# Altium schematic symbol library MainBLib.SchLib: 49 symbols (part 2 of 2)
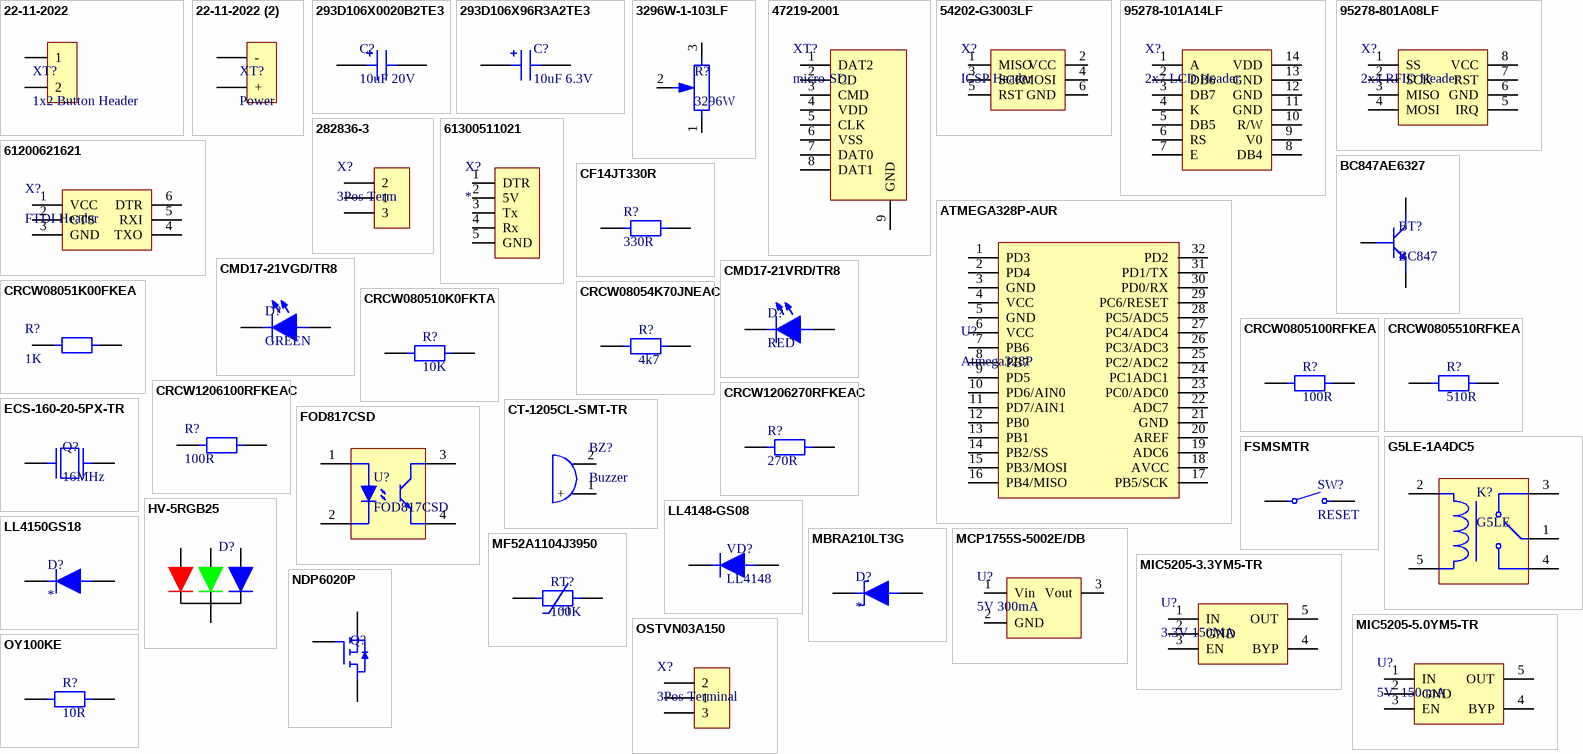
[diagram p2: symbols 22-11-2022 to OY100KE]

## ECS-160-20-5PX-TR
designator Q?, comment 16MHz
CRYSTAL 16.0000MHZ 20PF SMD; Manufacturer: ECS International; Manufacturer Part Number: ECS-160-20-5PX-TR; Frequency Tolerance: 30ppm; ESR (Equivalent Series Resistance): 40R; Frequency Stability: 50ppm; Supplier 1: Digi-Key; Supplier Part Number 1: XC1282CT-ND; Stock 1: 5912; Pricing 1: 1=0.3, 10=0.25, 50=0.2248, 100=0.1997, 500=0.1898 (USD); Mount: Surface Mount; Number of Pins: 2; Min Operating Temperature: -10°C; Max Operating Temperature: 70°C; Package Quantity: 1000; Frequency: 16MHz; Load Capacitance: 20pF; Packaging: Tape and Reel; Tolerance: 30ppm; Termination: SMD/SMT; Length: 0.449inch; Height: 0.169inch; Width: 0.189inch; Lead Free: Lead Free; ComponentLink1URL: http://www.ecsxtal.com/store/pdf/partnumber4.pdf?src-supplier=Digi-Key; ComponentLink1Description: http://www.ecsxtal.com/store/pdf/partnumber4.pdf?src-supplier=Digi-Key; ComponentLink2URL: http://www.ecsxtal.com/store/pdf/csm-7x.pdf?src-supplier=Digi-Key; ComponentLink2Description: http://www.ecsxtal.com/store/pdf/csm-7x.pdf?src-supplier=Digi-Key; Category: Crystals; Case/Package: HC-49/US
footprint Crystal
pins: 1, 2

## FOD817CSD
designator U?
OPTOISOLATOR 5KV TRANSISTOR 4SMD; Manufacturer: ON Semiconductor / Fairchild; Reverse Breakdown Voltage: 6V; Forward Voltage: 1.4V; Forward Current: 50mA; Rise Time: 18000ns; Number of Channels: 1; Collector Emitter Voltage (VCEO): 200mV; Max Power Dissipation: 200mW; Max Output Voltage: 70V; Current Transfer Ratio: 400%; Supplier 1: Digi-Key; Supplier Part Number 1: FOD817CSDCT-ND; Manufacturer Part Number: FOD817CSD; Stock 1: 3730; Pricing 1: 1=0.53, 10=0.385, 100=0.2513, 500=0.1806 (USD); Mount: Surface Mount; Case/Package: SMD/SMT; Number of Pins: 4; Weight: 0g; Min Operating Temperature: -55°C; Max Operating Temperature: 110°C; Packaging: Tape and Reel; Package Quantity: 1; Output Current per Channel: 50mA; Collector Emitter Saturation Voltage: 200mV; Max Collector Current: 50mA; Number of Elements: 1; Power Dissipation: 200mW; Fall Time: 18000ns; Max Input Current: 50mA; Isolation Voltage: 5kV; Number of Circuits: 1; Input Current: 50mA; Output Voltage: 70V; Length: 5.1mm; Height: 4mm; Width: 7mm; Radiation Hardening: No; REACH SVHC: No SVHC; Lead Free: Lead Free; ComponentLink1URL: http://www.fairchildsemi.com/datasheets/FO/FOD814A.pdf?src-supplier=Digi-Key; ComponentLink1Description: http://www.fairchildsemi.com/datasheets/FO/FOD814A.pdf?src-supplier=Digi-Key; ComponentLink2URL: http://www.onsemi.com/pub/Collateral/FOD814-D.PDF?src-supplier=Digi-Key; ComponentLink2Description: http://www.onsemi.com/pub/Collateral/FOD814-D.PDF?src-supplier=Digi-Key; ComponentLink3URL: http://www.jameco.com/Jameco/Products/ProdDS/915542.pdf?src-supplier=Jameco; ComponentLink3Description: http://www.jameco.com/Jameco/Products/ProdDS/915542.pdf?src-supplier=Jameco; ComponentLink4URL: http://www.mouser.com/ds/2/149/FOD817C-1008818.pdf?src-supplier=Mouser; ComponentLink4Description: http://www.mouser.com/ds/2/149/FOD817C-1008818.pdf?src-supplier=Mouser; ComponentLink5URL: http://www.farnell.com/datasheets/2041422.pdf?src-supplier=Element14; ComponentLink5Description: http://www.farnell.com/datasheets/2041422.pdf?src-supplier=Element14; ComponentLink6URL: https://www.fairchildsemi.com/datasheets/FO/FOD817D.pdf?src-supplier=Avnet; ComponentLink6Description: https://www.fairchildsemi.com/datasheets/FO/FOD817D.pdf?src-supplier=Avnet; ComponentLink7URL: http://www.fairchildsemi.com/ds/FO/FOD814A.pdf?src-supplier=Future+Electronics; ComponentLink7Description: http://www.fairchildsemi.com/ds/FO/FOD814A.pdf?src-supplier=Future+Electronics; ComponentLink8URL: https://www.verical.com/server-webapp/html/getDatasheet?partID=60121&src-supplier=Verical; ComponentLink8Description: https://www.verical.com/server-webapp/html/getDatasheet?partID=60121&src-supplier=Verical; ComponentLink9URL: https://www.fairchildsemi.com/datasheets/FO/FOD817D.pdf?src-supplier=Avnet+Europe; ComponentLink9Description: https://www.fairchildsemi.com/datasheets/FO/FOD817D.pdf?src-supplier=Avnet+Europe; Category: Optoisolators
footprint Isolator
pins: 1, 2, 3, 4

## FSMSMTR
designator SW?, comment RESET
SWITCH TACTILE SPST-NO 0.05A 24V; Manufacturer: TE Connectivity; Manufacturer Part Number: FSMSMTR; Mechanical Life: 20000Cycles; Actuator Material: Polyamide; Current Rating: 50mA; Throw Configuration: SPST; Contact Resistance: 100mR; Operating Force: 180gf; Max Voltage Rating (DC): 12V; Illumination Type: Non-Illuminated,Illuminated; Switch Travel: 0.25mm; Switch Function: Off-Mom; Actuator Type: Standard; Actuator Length: 1.07mm; Supplier 1: Digi-Key; Supplier Part Number 1: 450-1758-6-ND; Stock 1: 20359; Pricing 1: 1=0.47, 10=0.45, 25=0.442, 50=0.4254, 100=0.367, 250=0.3336, 500=0.317 (USD); Mount: Surface Mount; Case/Package: SMD/SMT; Contact Material: Brass; Contact Plating: Silver; Min Operating Temperature: -35°C; Max Operating Temperature: 85°C; Packaging: Tape and Reel; Package Quantity: 1800; Termination: Gull Wing; Voltage Rating (DC): 24V; Contact Current Rating: 50mA; Electrical Life: 20000Cycles; Orientation: Straight; Type: Switch; Max Current Rating: 50mA; Radiation Hardening: No; REACH SVHC: Unknown; Lead Free: Lead Free; ELV: Compliant; ComponentLink1URL: http://www.onlinecomponents.com/productFiles/mf-AO/eng_cat_1308390_0904_e3_e10_.pdf?src-supplier=Onlinecomponents.com; ComponentLink1Description: http://www.onlinecomponents.com/productFiles/mf-AO/eng_cat_1308390_0904_e3_e10_.pdf?src-supplier=Onlinecomponents.com; ComponentLink2URL: https://www.te.com/commerce/DocumentDelivery/DDEController?Action=srchrtrv&DocNm=1437566-3&DocType=Customer+Drawing&DocLang=English&src-supplier=Digi-Key; ComponentLink2Description: https://www.te.com/commerce/DocumentDelivery/DDEController?Action=srchrtrv&DocNm=1437566-3&DocType=Customer+Drawing&DocLang=English&src-supplier=Digi-Key; Category: Switches
footprint SWITCH
pins: 1, 2

## G5LE-1A4DC5
designator K?, comment G5LE
Relays Power PCB Relay SPST-NO Sealed 5VDC General Purpose; Manufacturer: Omron; Manufacturer Part Number: G5LE-1A4DC5; Power Rating: 400mW; Voltage Rating (AC): 250V; Max Voltage Rating (DC): 125V; Max Current Rating: 10A; Throw Configuration: SPST; Coil Resistance: 63R; Coil Current: 79.4mA; Operate Time: 10ms; Coil Type: Non-Latching; Coil Voltage (DC): 5V; Release Time: 5ms; Approvals: UL,CSA; Supplier 1: Digi-Key; Supplier Part Number 1: Z3116-ND; Stock 1: 21009; Pricing 1: 1=1.41, 10=1.321, 25=1.1748, 50=1.1158, 100=1.0571, 250=0.9397, 500=0.881 (USD); Mount: Through Hole,PCB; Number of Pins: 4; Weight: 12g; Contact Material: Tin,Silver; Min Operating Temperature: -40°C; Max Operating Temperature: 85°C; Power Consumption: 400mW; Package Quantity: 500; Max Voltage Rating (AC): 250V; Packaging: Tray; Termination: Solder; Contact Current Rating: 10A; Relay Type: General Purpose; Coil Power: 400mW; Current Rating: 10A; Length: 22.5mm; Height: 19mm; Width: 16.5mm; Depth: 16.5mm; REACH SVHC: Unknown; Lead Free: Lead Free; ComponentLink1URL: http://www.mouser.com/ds/2/307/G5LE_0813-267607.pdf?src-supplier=Mouser; ComponentLink1Description: http://www.mouser.com/ds/2/307/G5LE_0813-267607.pdf?src-supplier=Mouser; ComponentLink2URL: http://www.farnell.com/datasheets/1514128.pdf?src-supplier=Element14; ComponentLink2Description: http://www.farnell.com/datasheets/1514128.pdf?src-supplier=Element14; Category: Relays
footprint Relay
pins: 1, 2, 3, 4, 5

## HV-5RGB25
designator D?, comment LED RGB  (value not drawn)
LED RGB DIFFUSED 5MM T/H; Manufacturer: Inolux; Manufacturer Part Number: HV-5RGB25; Color: Blue,Green,Red; Lens Color: Colorless; Lens Style: Round,Domed; Element Configuration: Common Cathode; Lens Transparency: Clear; Luminous Intensity: 2000mcd; Forward Voltage: 3.4V; Test Current: 20mA; Viewing Angle: 25°; Dominant Wavelength: 470nm; Supplier 1: Digi-Key; Supplier Part Number 1: 1830-1015-ND; Stock 1: 3004; Pricing 1: 1=1.02, 10=0.829, 100=0.51, 500=0.4335, 1000=0.357, 2500=0.3392, 5000=0.3315, 10000=0.3239, 25000=0.3188 (USD); Mount: Through Hole; Case/Package: Radial; Packaging: Bulk; Height: 8.9mm; Lens Size: 5mm; ComponentLink1URL: http://www.inolux-corp.com/datasheet/Inolux%20Lamp/TH%20Lamp/HV-5RGBXX%205mm%20Full-Color%20Series.pdf?src-supplier=Digi-Key; ComponentLink1Description: http://www.inolux-corp.com/datasheet/Inolux%20Lamp/TH%20Lamp/HV-5RGBXX%205mm%20Full-Color%20Series.pdf?src-supplier=Digi-Key; Category: Optoelectronics
footprint LED RGB
pins: 1 B, 2 R, 3, 4 G

## LL4148-GS08
designator VD?, comment LL4148
DIODE, 100V 150mA, SWITCHING VISHAY - LL4148-GS08  SOD-80; Max Surge Current: 2A; Forward Voltage: 1V; Max Power Dissipation: 500mW; Recovery Time: 8ns; Max Reverse Leakage Current: 5uA; Average Rectified Current: 300mA; Element Configuration: Single; Max Reverse Voltage (DC): 75V; Outside Diameter: 1.5mm; Supplier 1: Digi-Key; Supplier Part Number 1: LL4148-GS08CT-ND; Manufacturer: Vishay; Manufacturer Part Number: LL4148-GS08; Stock 1: 114749; Pricing 1: 1=0.14, 10=0.129, 100=0.07, 500=0.0431, 1000=0.0294 (USD); Mount: Surface Mount; Number of Pins: 2; Contact Plating: Tin,Silver; Min Operating Temperature: -65°C; Max Operating Temperature: 175°C; Packaging: Tape and Reel; Forward Current: 150mA; Package Quantity: 1; Reverse Recovery Time: 8ns; Power Dissipation: 500mW; Peak Non-Repetitive Surge Current: 2A; Max Repetitive Reverse Voltage (Vrrm): 100V; Max Forward Surge Current (Ifsm): 2A; Termination: SMD/SMT; Current Rating: 150mA; Voltage: 100V; Diameter: 1.6mm; Length: 0.145inch; Radiation Hardening: No; REACH SVHC: Unknown; Lead Free: Lead Free; ComponentLink1URL: http://www.farnell.com/datasheets/2046016.pdf?src-supplier=Newark; ComponentLink1Description: http://www.farnell.com/datasheets/2046016.pdf?src-supplier=Newark; ComponentLink2URL: http://www.vishay.com/docs/85557/ll4148.pdf?src-supplier=Future+Electronics; ComponentLink2Description: http://www.vishay.com/docs/85557/ll4148.pdf?src-supplier=Future+Electronics; ComponentLink3URL: http://www.vishay.com/docs/85557/ll4148.pdf?src-supplier=Digi-Key; ComponentLink3Description: http://www.vishay.com/docs/85557/ll4148.pdf?src-supplier=Digi-Key; ComponentLink4URL: http://www.vishay.com/docs/85557/ll4148.pdf?src-supplier=Avnet; ComponentLink4Description: http://www.vishay.com/docs/85557/ll4148.pdf?src-supplier=Avnet; ComponentLink5URL: http://www.farnell.com/datasheets/1513919.pdf?src-supplier=Farnell; ComponentLink5Description: http://www.farnell.com/datasheets/1513919.pdf?src-supplier=Farnell; ComponentLink6URL: http://www.vishay.com/docs/85557/ll4148.pdf?src-supplier=Avnet+Asia; ComponentLink6Description: http://www.vishay.com/docs/85557/ll4148.pdf?src-supplier=Avnet+Asia; ComponentLink7URL: http://www.mouser.com/ds/2/427/ll4148-105055.pdf?src-supplier=Mouser; ComponentLink7Description: http://www.mouser.com/ds/2/427/ll4148-105055.pdf?src-supplier=Mouser; ComponentLink8URL: http://www.farnell.com/datasheets/2046016.pdf?src-supplier=Element14; ComponentLink8Description: http://www.farnell.com/datasheets/2046016.pdf?src-supplier=Element14; ComponentLink9URL: http://www.farnell.com/datasheets/1513919.pdf?src-supplier=Element14; ComponentLink9Description: http://www.farnell.com/datasheets/1513919.pdf?src-supplier=Element14; ComponentLink10URL: http://components.arrow.com/part/dataview/32126948S9716658N5680?src-supplier=Arrow; ComponentLink10Description: http://components.arrow.com/part/dataview/32126948S9716658N5680?src-supplier=Arrow; ComponentLink11URL: http://www.jameco.com/Jameco/Products/ProdDS/891018.pdf?src-supplier=Jameco; ComponentLink11Description: http://www.jameco.com/Jameco/Products/ProdDS/891018.pdf?src-supplier=Jameco; ComponentLink12URL: http://www.vishay.com/docs/85557/ll4148.pdf?src-supplier=Avnet+Europe; ComponentLink12Description: http://www.vishay.com/docs/85557/ll4148.pdf?src-supplier=Avnet+Europe; Category: Diodes; Case/Package: SOD-80
footprint Diode
pins: 1, 2

## LL4150GS18
designator D?
DIODE, 60V 600mA, General Purpose, Power, Switching; Manufacturer: Vishay; Manufacturer Part Number: LL4150GS18; Recovery Time: 4ns; Max Power Dissipation: 500mW; Peak Reverse Current: 100nA; Max Surge Current: 4A; Forward Voltage: 1V; Max Reverse Leakage Current: 100uA; Max Repetitive Reverse Voltage (Vrrm): 50V; Element Configuration: Single; Supplier 1: Digi-Key; Supplier Part Number 1: LL4150GS18GICT-ND; Stock 1: 10151; Pricing 1: 1=0.16, 10=0.149, 100=0.081, 500=0.0499, 1000=0.034, 2500=0.0289, 5000=0.0261 (USD); Mount: Surface Mount; Number of Pins: 2; Min Operating Temperature: -65°C; Max Operating Temperature: 175°C; Packaging: Tape and Reel; Package Quantity: 10000; Forward Current: 600mA; Average Rectified Current: 600mA; Reverse Recovery Time: 4ns; Peak Non-Repetitive Surge Current: 4A; Voltage: 50V; Max Reverse Voltage (DC): 50V; Length: 3.7mm; Height: 1.6mm; Width: 1.6mm; Radiation Hardening: No; ComponentLink1URL: http://www.mouser.com/ds/2/427/ll4150-240292.pdf?src-supplier=Mouser; ComponentLink1Description: http://www.mouser.com/ds/2/427/ll4150-240292.pdf?src-supplier=Mouser; ComponentLink2URL: http://www.vishay.com/docs/85558/ll4150.pdf?src-supplier=Avnet; ComponentLink2Description: http://www.vishay.com/docs/85558/ll4150.pdf?src-supplier=Avnet; ComponentLink3URL: http://www.vishay.com/docs/85558/ll4150.pdf?src-supplier=Avnet+Europe; ComponentLink3Description: http://www.vishay.com/docs/85558/ll4150.pdf?src-supplier=Avnet+Europe; Category: Diodes; Case/Package: SOD-80
footprint Diode
pins: 1, 2

## MBRA210LT3G
designator D?
DIODE SCHOTTKY 10V 2A SMA; Manufacturer: ON Semiconductor; Manufacturer Part Number: MBRA210LT3G; Max Surge Current: 160A; Forward Voltage: 350mV; Peak Reverse Current: 700uA; Element Configuration: Single; Polarity: Standard; Supplier 1: Digi-Key; Supplier Part Number 1: MBRA210LT3GOSCT-ND; Stock 1: 23902; Pricing 1: 1=0.48, 10=0.411, 100=0.3072, 500=0.2413, 1000=0.1865 (USD); Case/Package: CASE 403D SMA; Number of Pins: 2; Contact Plating: Tin,Matte; Min Operating Temperature: -55°C; Max Operating Temperature: 125°C; Package Quantity: 1; Forward Current: 2A; Packaging: Tape and Reel; Average Rectified Current: 2A; Max Reverse Leakage Current: 700uA; Max Repetitive Reverse Voltage (Vrrm): 10V; Max Forward Surge Current (Ifsm): 160A; Peak Non-Repetitive Surge Current: 160A; Voltage Rating (DC): 10V; Current Rating: 2A; Output Current: 2A; Max Reverse Voltage (DC): 10V; Length: 4.57mm; Height: 2.05mm; Width: 2.92mm; Radiation Hardening: No; REACH SVHC: No SVHC; Lead Free: Lead Free; Halogen Free: Halogen Free; ComponentLink1URL: http://www.onsemi.com/pub/Collateral/MBRA210LT3-D.PDF?src-supplier=Digi-Key; ComponentLink1Description: http://www.onsemi.com/pub/Collateral/MBRA210LT3-D.PDF?src-supplier=Digi-Key; ComponentLink2URL: http://www.mouser.com/ds/2/308/MBRA210LT3-D-76406.pdf?src-supplier=Mouser; ComponentLink2Description: http://www.mouser.com/ds/2/308/MBRA210LT3-D-76406.pdf?src-supplier=Mouser; ComponentLink3URL: http://www.farnell.com/datasheets/1796182.pdf?src-supplier=Element14; ComponentLink3Description: http://www.farnell.com/datasheets/1796182.pdf?src-supplier=Element14; ComponentLink4URL: http://www.onsemi.com/pub/Collateral/MBRA210LT3-D.PDF?src-supplier=Avnet; ComponentLink4Description: http://www.onsemi.com/pub/Collateral/MBRA210LT3-D.PDF?src-supplier=Avnet; ComponentLink5URL: http://www.onsemi.com/pub/Collateral/MBRA210LT3-D.PDF?src-supplier=Future+Electronics; ComponentLink5Description: http://www.onsemi.com/pub/Collateral/MBRA210LT3-D.PDF?src-supplier=Future+Electronics; Category: Diodes
footprint DIOM4326X22M (Molded Diode, 2-Leads, Body 4.31x2.60mm, IPC Low Density)
pins: 1, 2

## MCP1755S-5002E/DB
designator U?, comment 5V 300mA
Voltage Regulator, 5Vout, 300mAout, 3.6Vin to 16Vin, 300mV Fixed LDO Dropout, 5Vout, 300mAout, SOT-223-3; Manufacturer: Microchip; Manufacturer Part Number: MCP1755S-5002E/DB; Max Input Voltage: 16V; Number of Outputs: 1; Min Input Voltage: 3.6V; Polarity: Positive; Quiescent Current: 100uA; Accuracy: 2%; Power Supply Rejection Ratio (PSRR): 70dB; Nominal Supply Current: 68uA; Supplier 1: Digi-Key; Supplier Part Number 1: MCP1755S-5002E/DB-ND; Stock 1: 1923; Pricing 1: 1=0.68, 25=0.5768, 100=0.5665 (USD); Mount: Surface Mount; Case/Package: SOT-223-3; Number of Pins: 3; Weight: 0.008826oz; Min Operating Temperature: -40°C; Max Operating Temperature: 125°C; Nominal Output Voltage: 5V; Output Current: 300mA; Dropout Voltage: 300mV; Output Voltage: 5V; Packaging: Bulk; Package Quantity: 78; Max Output Current: 300mA; Output Type: Fixed; Length: 6.7mm; Height: 1.7mm; Width: 3.7mm; REACH SVHC: No SVHC; Lead Free: Lead Free; ComponentLink1URL: http://www.farnell.com/datasheets/1697992.pdf?src-supplier=Element14; ComponentLink1Description: http://www.farnell.com/datasheets/1697992.pdf?src-supplier=Element14; ComponentLink2URL: https://www.distrelec.biz/Web/Downloads/_t/ds/MCP1755_eng_tds.pdf?mime=application%2Fpdf&src-supplier=Distrelec; ComponentLink2Description: https://www.distrelec.biz/Web/Downloads/_t/ds/MCP1755_eng_tds.pdf?mime=application%2Fpdf&src-supplier=Distrelec; Category: Voltage Regulators
footprint SOT230P700X180-4M (SOT223, 4-Leads, Body 6.40x7.00mm (avg), Pitch 2.30mm, IPC Low Density)
pins: 1 Vin, 2 GND, 3 Vout

## MF52A1104J3950
designator RT?, comment 100K
THERMISTOR 100K OHM 5% BEAD; Manufacturer: Canadian Thermostats; Manufacturer Part Number: MF52A1104J3950; Max Power Dissipation: 50mW; Supplier 1: Digi-Key; Supplier Part Number 1: 317-1264-ND; Stock 1: 3676; Pricing 1: 1=0.45, 5=0.43, 10=0.383, 25=0.3528, 50=0.282, 100=0.2418, 500=0.2116, 1000=0.1814, 5000=0.1612 (USD); Mount: Through Hole; Min Operating Temperature: -55°C; Max Operating Temperature: 125°C; Package Quantity: 3000; Tolerance: 5%; Packaging: Bulk; ComponentLink1URL: http://www.cantherm.com/wp-content/uploads/2017/05/cantherm_mf52_1.pdf?src-supplier=Digi-Key; ComponentLink1Description: http://www.cantherm.com/wp-content/uploads/2017/05/cantherm_mf52_1.pdf?src-supplier=Digi-Key; Category: NTC Thermistors
footprint THERMISTOR
pins: 1, 2
text: +t

## MIC5205-3.3YM5-TR
designator U?, comment 3.3V 150MA
Voltage Regulator 3.3V 150MA SOT23-5; Manufacturer: Microchip; Manufacturer Part Number: MIC5205-3.3YM5-TR; Dropout Voltage: 165mV; Number of Regulators: 1; Min Input Voltage: 2.5V; Max Input Voltage: 16V; Output Type: Fixed; Supplier 1: Digi-Key; Supplier Part Number 1: 576-1259-1-ND; Stock 1: 9912; Pricing 1: 1=0.41, 25=0.34, 100=0.309 (USD); Mount: Surface Mount; Case/Package: SOT-23-5; Number of Pins: 5; Min Operating Temperature: -40°C; Max Operating Temperature: 125°C; Packaging: Cut Tape; Output Voltage: 3.3V; Output Current: 150mA; Nominal Output Voltage: 3.3V; Number of Outputs: 1; REACH SVHC: No SVHC; Lead Free: Lead Free; Category: Voltage Regulators
footprint SOT95P280X130-5M (SOT23, 5-Leads, Body 2.90x2.80mm, Pitch 0.95mm, IPC Low Density)
pins: 1 IN, 2 GND, 3 EN, 4 BYP, 5 OUT

## MIC5205-5.0YM5-TR
designator U?, comment 5V  150 mA
Voltage Regulator 5V 150 mA Output SMT Low-Noise LDO Regulator - SOT-23-5; Manufacturer: Microchip Micrel; Manufacturer Part Number: MIC5205-5.0YM5-TR; Dropout Voltage: 350mV; Max Output Current: 150mA; Number of Outputs: 1; Min Input Voltage: 2.5V; Max Input Voltage: 16V; Polarity: Positive; Accuracy: 1%; Power Supply Rejection Ratio (PSRR): 75dB; Output Type: Fixed; Supplier 1: Digi-Key; Supplier Part Number 1: 576-1261-1-ND; Stock 1: 23908; Pricing 1: 1=0.41, 25=0.34, 100=0.309 (USD); Mount: Surface Mount; Case/Package: SOT-23; Number of Pins: 5; Min Operating Temperature: -40°C; Max Operating Temperature: 125°C; Package Quantity: 1; Packaging: Tape and Reel; Output Voltage: 5V; Output Current: 150mA; Max Supply Voltage: 16V; Min Supply Voltage: 2.5V; Nominal Output Voltage: 5V; Number of Regulators: 1; Min Output Voltage: 5V; Max Output Voltage: 5V; Termination: SMD/SMT; Output Voltage Accuracy: 1%; Current Rating: 150mA; Length: 2.9mm; Height: 1.1mm; Width: 1.6mm; Radiation Hardening: No; REACH SVHC: No SVHC; Lead Free: Lead Free; ComponentLink1URL: http://www.mouser.com/ds/2/495/mic5205-271941.pdf?src-supplier=Mouser; ComponentLink1Description: http://www.mouser.com/ds/2/495/mic5205-271941.pdf?src-supplier=Mouser; ComponentLink2URL: http://www.micrel.com/_PDF/mic5205.pdf?src-supplier=Future+Electronics; ComponentLink2Description: http://www.micrel.com/_PDF/mic5205.pdf?src-supplier=Future+Electronics; Category: Voltage Regulators
pins: 1 IN, 2 GND, 3 EN, 4 BYP, 5 OUT

## NDP6020P
designator Q?, comment MOSFET P-Ch  (value not drawn)
MOSFET P-Ch LL FET Enhancement Mode; Manufacturer: ON Semiconductor / Fairchild; Manufacturer Part Number: NDP6020P; Max Power Dissipation: 60W; Rise Time: 27ns; Rds On Max: 50mR; Input Capacitance: 1.59nF; Drain to Source Voltage (Vdss): 20V; Continuous Drain Current (ID): 24A; Fall Time: 70ns; Drain to Source Resistance: 5mR; Turn-Off Delay Time: 120ns; Number of Elements: 1; Turn-On Delay Time: 15ns; Threshold Voltage: -700mV; Element Configuration: Single; Drain to Source Breakdown Voltage: -20V; Gate to Source Voltage (Vgs): 8V; Current Rating: -24A; Supplier 1: Digi-Key; Supplier Part Number 1: NDP6020P-ND; Stock 1: 4487; Pricing 1: 1=1.73, 10=1.552, 100=1.2475, 500=1.025, 1000=0.8493 (USD); Mount: Through Hole; Case/Package: TO-220AB; Number of Pins: 3; Weight: 1.8g; Min Operating Temperature: -55°C; Max Operating Temperature: 175°C; Packaging: Rail/Tube; Package Quantity: 50; Power Dissipation: 60W; Voltage Rating (DC): -20V; On-State Resistance: 50mR; Length: 10.67mm; Height: 16.3mm; Width: 4.7mm; Radiation Hardening: No; REACH SVHC: No SVHC; Lead Free: Lead Free; ComponentLink1URL: https://www.verical.com/server-webapp/html/getDatasheet?partID=59735&src-supplier=Verical; ComponentLink1Description: https://www.verical.com/server-webapp/html/getDatasheet?partID=59735&src-supplier=Verical; ComponentLink2URL: https://www.fairchildsemi.com/datasheets/ND/NDB6020P.pdf?src-supplier=Avnet; ComponentLink2Description: https://www.fairchildsemi.com/datasheets/ND/NDB6020P.pdf?src-supplier=Avnet; ComponentLink3URL: http://www.fairchildsemi.com/datasheets/ND/NDB6020P.pdf?src-supplier=Digi-Key; ComponentLink3Description: http://www.fairchildsemi.com/datasheets/ND/NDB6020P.pdf?src-supplier=Digi-Key; ComponentLink4URL: http://www.fairchildsemi.com/ds/ND/NDP6020P.pdf?src-supplier=Future+Electronics; ComponentLink4Description: http://www.fairchildsemi.com/ds/ND/NDP6020P.pdf?src-supplier=Future+Electronics; ComponentLink5URL: http://www.fairchildsemi.com/ds/ND/NDB6020P.pdf?src-supplier=Avnet+Europe; ComponentLink5Description: http://www.fairchildsemi.com/ds/ND/NDB6020P.pdf?src-supplier=Avnet+Europe; ComponentLink6URL: http://www.produktinfo.conrad.com/datenblaetter/1200000-1299999/001264959-da-01-en-MOSFET_P_CH_20V_24_NDP6020P_TO_220_3_FSC.pdf?src-supplier=Conrad; ComponentLink6Description: http://www.produktinfo.conrad.com/datenblaetter/1200000-1299999/001264959-da-01-en-MOSFET_P_CH_20V_24_NDP6020P_TO_220_3_FSC.pdf?src-supplier=Conrad; Category: MOSFETs
footprint DPAK254P1524X483-3M (D2-PAK, 3-Pads, Body 7.93x8.57mm (max), IPC Low Density)
pins: 1 G, 3 S, 4 D

## OSTVN03A150
designator X?, comment 3Pos Terminal
TERMINAL 3POS 2.54MM PCB BLK 3P SIDE ENT; Manufacturer: On-Shore Technology; Manufacturer Part Number: OSTVN03A150; Plating: Brass,Steel; Number of Levels: 1; Number of Positions Per Level: 3; Current: 6A; Voltage: 125V; Wire Gauge (Max): 30AWG; Wire Gauge (Min): 20AWG; Pitch: 0.1inch; Supplier 1: Digi-Key; Supplier Part Number 1: ED10562-ND; Stock 1: 14157; Pricing 1: 1=1.03, 10=0.726, 25=0.6772, 50=0.6148, 100=0.612, 250=0.5168, 500=0.4896, 1000=0.4352, 5000=0.3536 (USD); Mount: Through Hole; Number of Pins: 3; Color: Green; Contact Plating: Brass; Housing Material: Thermoplastic; Min Operating Temperature: -30°C; Max Operating Temperature: 105°C; Packaging: Bulk; Termination: Screw; ComponentLink1URL: http://www.on-shore.com/wp-content/uploads/2015/09/ostvnxxa150.pdf?src-supplier=Digi-Key; ComponentLink1Description: http://www.on-shore.com/wp-content/uploads/2015/09/ostvnxxa150.pdf?src-supplier=Digi-Key; Category: Connectors
footprint 3 Pos Terminal
pins: 1, 2, 3

## OY100KE
designator R?, comment 10R
RES T/H 10 OHM 2W 10% AXIAL; Manufacturer: Ohmite; Manufacturer Part Number: OY100KE; Voltage Rating (DC): 400V; Temperature Coefficient: 300ppm/°C; Lead Diameter: 0.8mm; Lead Length: 38mm; Wire/Cable Diameter: 0.031inch; Supplier 1: Digi-Key; Supplier Part Number 1: OY100KE-ND; Stock 1: 7907; Pricing 1: 1=2.45, 10=2.173, 25=2.0144, 50=1.896, 100=1.659, 250=1.422, 500=1.185, 1000=1.027, 5000=0.9954 (USD); Mount: Through Hole; Case/Package: Axial; Material: Ceramic; Min Operating Temperature: -40°C; Max Operating Temperature: 220°C; Tolerance: 10%; Resistance: 10R; Power Rating: 2W; Voltage Rating: 400V; Package Quantity: 50; Packaging: Bulk; Composition: Ceramic; Number of Terminations: 2; Termination: Axial; Max Power Dissipation: 2W; Features: Moisture Resistant; Diameter: 7mm; Length: 0.748inch; REACH SVHC: Unknown; Lead Free: Lead Free; ComponentLink1URL: http://www.ohmite.com/assets/docs/res_ox_oy.pdf?r=false&src-supplier=Digi-Key; ComponentLink1Description: http://www.ohmite.com/assets/docs/res_ox_oy.pdf?r=false&src-supplier=Digi-Key; ComponentLink2URL: http://www.farnell.com/datasheets/95960.pdf?src-supplier=Element14; ComponentLink2Description: http://www.farnell.com/datasheets/95960.pdf?src-supplier=Element14; Category: Resistors
footprint RES T/H 2W
pins: 1, 2

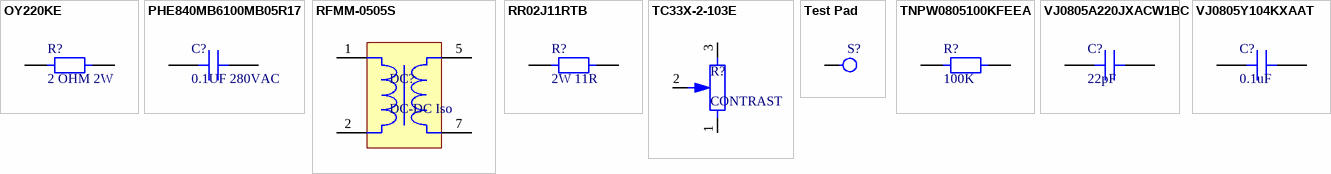
[diagram p1: symbols OY220KE to VJ0805Y104KXAAT]

## OY220KE
designator R?, comment 2 OHM 2W
RES T/H 22 OHM 2W 10% AXIAL; Manufacturer: Ohmite; Manufacturer Part Number: OY220KE; Resistance: 22R; Voltage Rating: 400V; Temperature Coefficient: 300ppm/°C; Lead Diameter: 0.8mm; Lead Length: 38mm; Wire/Cable Diameter: 0.031inch; Supplier 1: Digi-Key; Supplier Part Number 1: OY220KE-ND; Stock 1: 10224; Mount: Through Hole; Case/Package: Axial; Material: Ceramic; Min Operating Temperature: -40°C; Max Operating Temperature: 220°C; Package Quantity: 50; Power Rating: 2W; Tolerance: 10%; Packaging: Bulk; Voltage Rating (DC): 400V; Composition: Ceramic; Number of Terminations: 2; Termination: Axial; Military Standard: Not; Max Power Dissipation: 2W; Features: Moisture Resistant; Diameter: 7mm; Length: 0.748inch; REACH SVHC: Unknown; Lead Free: Lead Free; ComponentLink1URL: http://www.ohmite.com/assets/docs/res_ox_oy.pdf?r=false&src-supplier=Digi-Key; ComponentLink1Description: http://www.ohmite.com/assets/docs/res_ox_oy.pdf?r=false&src-supplier=Digi-Key; ComponentLink2URL: http://www.farnell.com/datasheets/95960.pdf?src-supplier=Element14; ComponentLink2Description: http://www.farnell.com/datasheets/95960.pdf?src-supplier=Element14; Category: Resistors
pins: 1, 2

## PHE840MB6100MB05R17
designator C?, comment 0.1UF 280VAC
CAP FILM 0.1UF 280VAC Safety Cap; Manufacturer: KEMET; Manufacturer Part Number: PHE840MB6100MB05R17; Dielectric Material: PP; Capacitance: 100nF; Tolerance: 20%; Voltage Rating: 275V; Voltage Rating (AC): 280V; Voltage Rating (DC): 760V; Voltage: 250V; Dissipation Factor: 0.6%; Life (Hours): 1000Hour; Lead Diameter: 0.8mm; Lead Length: 30mm; Supplier 1: Digi-Key; Supplier Part Number 1: 399-5426-ND; Stock 1: 33784; Mount: Through Hole; Case/Package: Radial; Number of Pins: 2; Min Operating Temperature: -55°C; Max Operating Temperature: 105°C; Package Quantity: 800; Packaging: Bulk; Dielectric: PP; Termination: Radial; Length: 18mm; Height: 12.5mm; Lead Pitch: 15mm; Width: 5.5mm; Height - Seated (Max): 0.492inch; Depth: 5.5mm; Radiation Hardening: No; REACH SVHC: No SVHC; ComponentLink1URL: http://www.farnell.com/datasheets/2120133.pdf?src-supplier=Element14; ComponentLink1Description: http://www.farnell.com/datasheets/2120133.pdf?src-supplier=Element14; ComponentLink2URL: http://www.farnell.com/datasheets/1468675.pdf?src-supplier=Element14; ComponentLink2Description: http://www.farnell.com/datasheets/1468675.pdf?src-supplier=Element14; ComponentLink3URL: https://www.distrelec.biz/Web/Downloads/_t/ds/F3294_PHE840M_eng_tds.pdf?mime=application%2Fpdf&src-supplier=Distrelec; ComponentLink3Description: https://www.distrelec.biz/Web/Downloads/_t/ds/F3294_PHE840M_eng_tds.pdf?mime=application%2Fpdf&src-supplier=Distrelec; ComponentLink4URL: http://www.mouser.com/ds/2/212/F3294_PHE840M-1101897.pdf?src-supplier=Mouser; ComponentLink4Description: http://www.mouser.com/ds/2/212/F3294_PHE840M-1101897.pdf?src-supplier=Mouser; ComponentLink5URL: https://api.kemet.com/component-edge/download/datasheet/PHE840MB6100MB05R17.pdf?src-supplier=Digi-Key; ComponentLink5Description: https://api.kemet.com/component-edge/download/datasheet/PHE840MB6100MB05R17.pdf?src-supplier=Digi-Key; Category: Capacitors
pins: 1, 2

## RFMM-0505S
designator DC?, comment DC-DC Iso
DC DC CONVERTER 5V-5V 1W; Manufacturer: Recom; Manufacturer Part Number: RFMM-0505S; Max Output Voltage: 5V; Supplier 1: Digi-Key; Supplier Part Number 1: 945-3160-ND; Stock 1: 1681; Pricing 1: 1=1.7, 5=1.674, 10=1.649, 25=1.6004, 50=1.552, 100=1.5035, 250=1.455, 500=1.358 (USD); Weight: 2.7g; Length: 19.65mm; Height: 10.2mm; Width: 7.05mm; ComponentLink1URL: https://www.recom-power.com/pdf/Econoline/RFMM.pdf?src-supplier=Digi-Key; ComponentLink1Description: https://www.recom-power.com/pdf/Econoline/RFMM.pdf?src-supplier=Digi-Key; ComponentLink2URL: http://www.farnell.com/datasheets/2787867.pdf?src-supplier=Farnell; ComponentLink2Description: http://www.farnell.com/datasheets/2787867.pdf?src-supplier=Farnell; Category: DC DC Converters
footprint DC/DC
pins: 1, 2, 5, 7

## RR02J11RTB
designator R?, comment 2W 11R
RES T/H 11 Ohm 2W 5% ±300ppm/°C Conformal AXL Thru-Hole Ammo Pack; Manufacturer: TE Connectivity; Manufacturer Part Number: RR02J11RTB; Number of Resistors: 1; Voltage Rating: 500V; Supplier 1: Digi-Key; Supplier Part Number 1: A138257CT-ND; Stock 1: 3940; Pricing 1: 1=0.36, 10=0.308, 25=0.224, 50=0.1626, 100=0.1205, 250=0.0925, 500=0.0729 (USD); Mount: Axial; Case/Package: Axial; Min Operating Temperature: -55°C; Max Operating Temperature: 155°C; Resistance: 11R; Power Rating: 2W; Tolerance: 5%; Package Quantity: 1000; Termination: Axial; Temperature Coefficient: 300ppm/°C; Packaging: Bulk; Composition: Power resistor; Number of Terminations: 2; Diameter: 3.5mm; Length: 9mm; ELV: Compliant; ComponentLink1URL: http://www.mouser.com/ds/2/418/NG_DS_3-1773449-2_E-734362.pdf?src-supplier=Mouser; ComponentLink1Description: http://www.mouser.com/ds/2/418/NG_DS_3-1773449-2_E-734362.pdf?src-supplier=Mouser; ComponentLink2URL: http://datasheet.octopart.com/RR02J11RTB-TE-Connectivity-datasheet-62056503.pdf?src-supplier=Newark; ComponentLink2Description: http://datasheet.octopart.com/RR02J11RTB-TE-Connectivity-datasheet-62056503.pdf?src-supplier=Newark; ComponentLink3URL: http://datasheet.octopart.com/RR02J11RTB-Tyco-Electronics-datasheet-11120060.pdf?src-supplier=TE+Connectivity; ComponentLink3Description: http://datasheet.octopart.com/RR02J11RTB-Tyco-Electronics-datasheet-11120060.pdf?src-supplier=TE+Connectivity; ComponentLink4URL: http://datasheet.octopart.com/RR02J11RTB-TE-Connectivity-datasheet-14742579.pdf?src-supplier=TE+Connectivity; ComponentLink4Description: http://datasheet.octopart.com/RR02J11RTB-TE-Connectivity-datasheet-14742579.pdf?src-supplier=TE+Connectivity; ComponentLink5URL: http://datasheet.octopart.com/RR02J11RTB-TE-Connectivity-datasheet-12070016.pdf?src-supplier=TE+Connectivity; ComponentLink5Description: http://datasheet.octopart.com/RR02J11RTB-TE-Connectivity-datasheet-12070016.pdf?src-supplier=TE+Connectivity; ComponentLink6URL: http://datasheet.octopart.com/RR02J11RTB-TE-Connectivity-datasheet-11120284.pdf?src-supplier=TE+Connectivity; ComponentLink6Description: http://datasheet.octopart.com/RR02J11RTB-TE-Connectivity-datasheet-11120284.pdf?src-supplier=TE+Connectivity; Category: Resistors
footprint RES T/H 2W
pins: 1, 2

## TC33X-2-103E
designator R?, comment CONTRAST
POT, TRIMMER 10K OHM 0.1W J LEAD TOP; Manufacturer: Bourns; Manufacturer Part Number: TC33X-2-103E; Tolerance: 25%; Resistance: 10kR; Power Rating: 100mW; Number of Turns: 1; Temperature Coefficient: 250ppm/°C; Voltage Rating (DC): 50V; Supplier 1: Digi-Key; Supplier Part Number 1: TC33X-103ECT-ND; Stock 1: 138101; Pricing 1: 1=0.28, 10=0.277, 25=0.2504, 50=0.2388, 100=0.231, 250=0.2156, 500=0.1964, 1000=0.1771 (USD); Mount: Surface Mount; Weight: 29.4mg; Color: Silver; Contact Plating: Copper,Tin,Silver; Min Operating Temperature: -40°C; Max Operating Temperature: 100°C; Packaging: Tape and Reel; Package Quantity: 2500; Composition: Cermet,Potentiometer; Termination: Foot Print; Taper: Linear; Military Standard: Not; Max Power Dissipation: 100mW; Length: 3mm; Height: 0.047inch; Width: 0.118inch; Depth: 3.8mm; Radiation Hardening: No; REACH SVHC: No SVHC; Lead Free: Lead Free; ComponentLink1URL: http://uk.rs-online.com/webdocs/0274/0900766b802749b3.pdf?src-supplier=RSComponents; ComponentLink1Description: http://uk.rs-online.com/webdocs/0274/0900766b802749b3.pdf?src-supplier=RSComponents; ComponentLink2URL: http://www.farnell.com/datasheets/1948967.pdf?src-supplier=Element14; ComponentLink2Description: http://www.farnell.com/datasheets/1948967.pdf?src-supplier=Element14; ComponentLink3URL: https://www.verical.com/server-webapp/html/getDatasheet?partID=183773&src-supplier=Verical; ComponentLink3Description: https://www.verical.com/server-webapp/html/getDatasheet?partID=183773&src-supplier=Verical; ComponentLink4URL: https://www.bourns.com/docs/Product-Datasheets/TC33.pdf?src-supplier=Digi-Key; ComponentLink4Description: https://www.bourns.com/docs/Product-Datasheets/TC33.pdf?src-supplier=Digi-Key; ComponentLink5URL: http://www.bourns.com/pdfs/tc33.pdf?src-supplier=Avnet; ComponentLink5Description: http://www.bourns.com/pdfs/tc33.pdf?src-supplier=Avnet; ComponentLink6URL: http://www.farnell.com/datasheets/1520225.pdf?src-supplier=Element14; ComponentLink6Description: http://www.farnell.com/datasheets/1520225.pdf?src-supplier=Element14; ComponentLink7URL: http://www.bourns.com/pdfs/tc33.pdf?src-supplier=Avnet+Europe; ComponentLink7Description: http://www.bourns.com/pdfs/tc33.pdf?src-supplier=Avnet+Europe; Category: Potentiometers
footprint Pot 10K
pins: 1, 2, 3

## Test Pad
designator S?  (value not drawn)
footprint Test Pad
pins: 1

## TNPW0805100KFEEA
designator R?, comment 100K
RES SMD 100K Ohm 1% 0.2W(1/5W) ±25ppm/C Sulfur Resistant Conformal Coated Pad SMD Automotive Medical T/R; Manufacturer: Vishay; Manufacturer Part Number: TNPW0805100KFEEA; Power Rating: 125mW; Resistance: 100kR; Voltage Rating: 150V; Temperature Coefficient: 25ppm/°C; Supplier 1: Digi-Key; Supplier Part Number 1: 541-3912-1-ND; Stock 1: 6678; Pricing 1: 1=0.42, 10=0.319, 100=0.134, 1000=0.0739, 2500=0.0693 (USD); Case/Package: 0805; Weight: 0.000194oz; Case Code (Imperial): 0805; Case Code (Metric): 2012; Contact Plating: Tin; Min Operating Temperature: -55°C; Max Operating Temperature: 125°C; Tolerance: 1%; Packaging: Tape and Reel; Composition: Thin Film; Termination: SMD/SMT; Length: 2mm; Height: 0.45mm; Width: 1.2mm; Radiation Hardening: No; Lead Free: Lead Free; ComponentLink1URL: http://www.vishay.com/docs/28758/tnpw_e3.pdf?src-supplier=Avnet; ComponentLink1Description: http://www.vishay.com/docs/28758/tnpw_e3.pdf?src-supplier=Avnet; ComponentLink2URL: http://www.vishay.com/docs/28758/tnpw_e3.pdf?src-supplier=Future+Electronics; ComponentLink2Description: http://www.vishay.com/docs/28758/tnpw_e3.pdf?src-supplier=Future+Electronics; Category: Resistors
footprint 0805 Res
pins: 1, 2

## VJ0805A220JXACW1BC
designator C?, comment 22pF
Ceramic Cap 22 pF 50 V ±5 % Tolerance C0G/NP0 SMT Multilayer; Manufacturer: Vishay; Manufacturer Part Number: VJ0805A220JXACW1BC; Dielectric Material: Tantalum; Tolerance: 5%; Voltage Rating: 50V; Dielectric: C0G; Temperature Coefficient: 0ppm/°C; Supplier 1: Digi-Key; Supplier Part Number 1: 720-1601-1-ND; Stock 1: 7193; Pricing 1: 1=0.19, 10=0.13, 100=0.0661, 500=0.0452, 1000=0.04 (USD); Mount: Surface Mount; Case/Package: 0805; Number of Pins: 2; Case Code (Imperial): 0805; Case Code (Metric): 2012; Min Operating Temperature: -55°C; Max Operating Temperature: 125°C; Capacitance: 22pF; Packaging: Tape and Reel; Voltage Rating (DC): 50V; Package Quantity: 4000; Termination: SMD/SMT; Length: 2mm; Height: 1.45mm; Width: 1.25mm; Thickness: 0.03inch; Depth: 1.25mm; Radiation Hardening: No; Lead Free: Lead Free; ComponentLink1URL: http://www.vishay.com/docs/28548/vjw1bcbascomseries.pdf?src-supplier=Future+Electronics; ComponentLink1Description: http://www.vishay.com/docs/28548/vjw1bcbascomseries.pdf?src-supplier=Future+Electronics; ComponentLink2URL: http://www.vishay.com/docs/28548/vjw1bcbascomseries.pdf?src-supplier=Digi-Key; ComponentLink2Description: http://www.vishay.com/docs/28548/vjw1bcbascomseries.pdf?src-supplier=Digi-Key; Category: Capasitors
footprint 0805 Ceramic Capacitor
pins: 1, 2

## VJ0805Y104KXAAT
designator C?, comment 0.1uF
Ceramic Cap 0.1uF 50 V 10% MLCC - SMD/SMT; Manufacturer: Vishay Vitramon; Manufacturer Part Number: VJ0805Y104KXAAT; Capacitance: 100nF; Voltage Rating: 50V; Dielectric: X7R; Supplier 1: Digi-Key; Supplier Part Number 1: 720-1383-1-ND; Stock 1: 151633; Pricing 1: 1=0.34, 10=0.234, 100=0.1404, 500=0.1053, 1000=0.0889 (USD); Mount: Surface Mount; Case/Package: 0805; Weight: 0.000194oz; Case Code (Metric): 2012; Case Code (Imperial): 0805; Min Operating Temperature: -55°C; Max Operating Temperature: 125°C; Package Quantity: 1; Packaging: Tape and Reel; Tolerance: 10%; Voltage Rating (DC): 50V; Termination: SMD/SMT; Voltage: 50V; Length: 2mm; Height: 1.45mm; Width: 0.049inch; Thickness: 0.057inch; Depth: 1.25mm; Radiation Hardening: No; REACH SVHC: Unknown; Lead Free: Lead Free; ComponentLink1URL: http://www.mouser.com/ds/2/427/vjcommercialseries-222796.pdf?src-supplier=Mouser; ComponentLink1Description: http://www.mouser.com/ds/2/427/vjcommercialseries-222796.pdf?src-supplier=Mouser; ComponentLink2URL: http://www.vishay.com/docs/45199/vjcommercialseries.pdf?src-supplier=Digi-Key; ComponentLink2Description: http://www.vishay.com/docs/45199/vjcommercialseries.pdf?src-supplier=Digi-Key; ComponentLink3URL: http://www.vishay.com/docs/45199/vjcommercialseries.pdf?src-supplier=Future+Electronics; ComponentLink3Description: http://www.vishay.com/docs/45199/vjcommercialseries.pdf?src-supplier=Future+Electronics; Category: Capasitors
footprint 0805 Ceramic Capacitor
pins: 1, 2